# Altium footprint library LM317-337封装.PcbLib: 2 footprints
Each footprint in its own frame and in the unit in brackets; x right, y up, seen from the top. Pads: shape width x height; smd on the part's side, far side on the other; paste and mask are expansions set on the pad; w line width, h text height; cw(c..) or ccw(c..) is an arc to the next point about the centre after c.
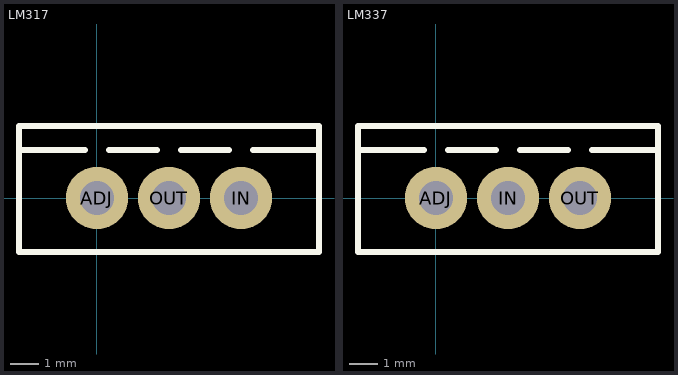
[diagram p0: the footprints below, top view; thin cyan lines are the x and y axes]

## LM317 [mm]
pads (3):
  round 2.2 hole 1.2: ADJ(0,0) IN(5.08,0) OUT(2.54,0)
TopOverlay:
  lines w0.2: -2.752,1.693 -0.423,1.693 ; 0.423,1.693 2.117,1.693 ; 2.963,1.693 4.657,1.693 ; 5.503,1.693 7.832,1.693 ; -2.752,-1.905 7.832,-1.905 7.832,2.54 -2.752,2.54 -2.752,-1.905

## LM337 [mm]
pads (3):
  round 2.2 hole 1.2: ADJ(0,0) IN(2.54,0) OUT(5.08,0)
TopOverlay:
  lines w0.2: -2.752,1.693 -0.423,1.693 ; 0.423,1.693 2.117,1.693 ; 2.963,1.693 4.657,1.693 ; 5.503,1.693 7.832,1.693 ; -2.752,-1.905 7.832,-1.905 7.832,2.54 -2.752,2.54 -2.752,-1.905